# Altium footprint library PcbLib1.PcbLib: 226 footprints (part 11 of 15)
Each footprint in its own frame and in the unit in brackets; x right, y up, seen from the top. Pads: shape width x height; smd on the part's side, far side on the other; paste and mask are expansions set on the pad; w line width, h text height; cw(c..) or ccw(c..) is an arc to the next point about the centre after c.
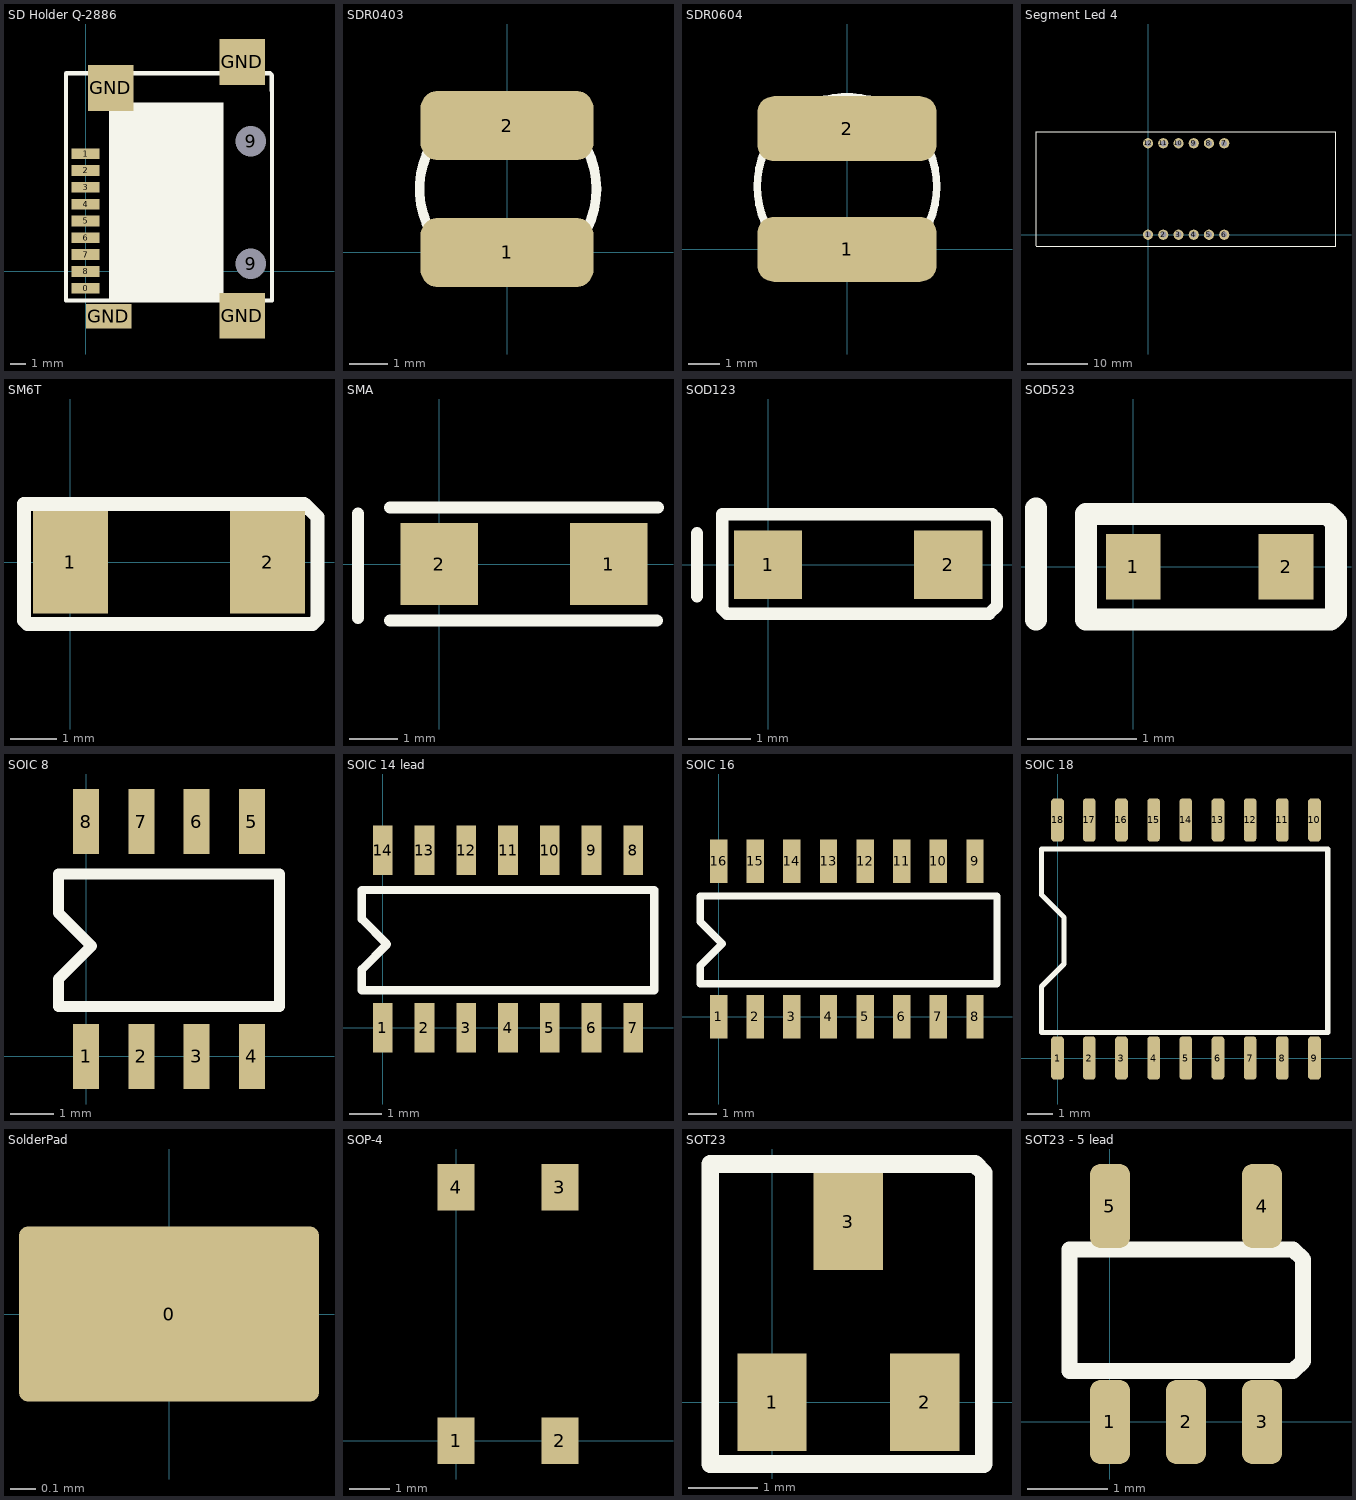
[diagram p10: the footprints below, top view; thin cyan lines are the x and y axes]

## SD Holder Q-2886 [mm]
height 2
pads (15):
  rect 1.8x0.7 smd mask+0: 0(0,-1.1) 1(0,7.7) 2(0,6.6) 3(0,5.5) 4(0,4.4) 5(0,3.3) 6(0,2.2) 7(0,1.1) 8(0,0)
  round 1.5 hole 2 paste+0 mask+0: 9(10.8,0.5) 9(10.8,8.5)
  rect 3x1.6 smd: GND(1.524,-2.921)
  rect 3x3 smd: GND(1.651,12) GND(10.25,-2.9) GND(10.25,13.7)
Top Overlay:
  rectangle: 1.524,-1.778 9.017,11.049
  lines w0.254: -1.27,12.954 -1.27,-1.905 12.192,-1.905 12.192,11.811
  lines w0.3: -1.27,12.954 12.065,12.954 12.192,12.827 12.192,11.811

## SDR0403 [mm]
height 3.5
pads (2):
  rrect50% 4.5x1.8 smd: 1(0,0) 2(0,3.302)
Top Overlay:
  circle w0.254: c0.025,1.651 r2.3

## SDR0604 [mm]
height 5
pads (2):
  rrect50% 5.8x2.1 smd: 1(0,0) 2(0,3.9)
Top Overlay:
  circle w0.254: c0,2.032 r2.9

## Segment Led 4 [mm]
height 6
pads (12):
  round 1.7 hole 1: 1(0,0) 2(2.54,0) 3(5.08,0) 4(7.62,0) 5(10.16,0) 6(12.7,0) 7(12.7,15.24) 8(10.16,15.24) 9(7.62,15.24) 10(5.08,15.24) 11(2.54,15.24) 12(0,15.24)
Top Overlay:
  lines w0.2: -18.669,-1.905 31.331,-1.905 ; -18.669,-1.855 -18.669,17.145 31.331,17.145 31.331,-1.855

## SM6T [mm]
height 3
pads (2):
  rect 1.6x2.2 smd: 1(0,0) 2(4.22,0)
Top Overlay:
  lines w0.3: -0.991,-1.245 -0.991,1.245 5.004,1.245 5.283,0.965 5.283,-1.219 5.182,-1.321 -0.914,-1.321 -0.991,-1.245

## SMA [mm]
height 2
pads (2):
  rect 1.6x1.7 smd: 1(3.5,0) 2(0,0)
Top Overlay:
  lines w0.254: -1.676,-1.118 -1.676,1.041 ; -1.016,-1.168 4.496,-1.168 ; -1.016,1.168 4.521,1.168

## SOD123 [mm]
height 3
pads (2):
  rect 1.1x1.1 smd: 1(0,0) 2(2.9,0)
Top Overlay:
  lines w0.2: -1.143,-0.508 -1.143,0.508 ; -0.737,-0.711 -0.66,-0.787 3.556,-0.787 3.683,-0.66 3.683,0.737 3.607,0.813 -0.737,0.813 -0.737,-0.711

## SOD523 [mm]
height 3
pads (2):
  rect 0.5x0.6 smd: 1(0,0) 2(1.397,0)
Top Overlay:
  lines w0.2: -0.889,-0.483 -0.889,0.533 ; -0.432,-0.483 1.803,-0.483 1.854,-0.432 1.854,0.406 1.778,0.483 -0.432,0.483 -0.432,-0.483

## SOIC 8 [mm]
height 1
pads (8):
  rect 0.6x1.5 smd: 1(0,0) 2(1.27,0) 3(2.54,0) 4(3.81,0) 5(3.81,5.4) 6(2.54,5.4) 7(1.27,5.4) 8(0,5.4)
Top Overlay:
  lines w0.254: -0.635,1.143 4.445,1.143 4.445,4.191 -0.635,4.191 -0.635,3.302 0.127,2.54 -0.635,1.778 -0.635,1.143

## SOIC 14 lead [mm]
height 1
pads (14):
  rect 0.6x1.5 smd: 1(0,0) 2(1.27,0) 3(2.54,0) 4(3.81,0) 5(5.08,0) 6(6.35,0) 7(7.62,0) 8(7.62,5.4) 9(6.35,5.4) 10(5.08,5.4) 11(3.81,5.4) 12(2.54,5.4) 13(1.27,5.4) 14(0,5.4)
Top Overlay:
  lines w0.254: -0.635,1.143 8.255,1.143 8.255,4.191 -0.635,4.191 -0.635,3.302 0.127,2.54 -0.635,1.778 -0.635,1.143

## SOIC 16 [mm]
height 1
pads (16):
  rect 0.6x1.5 smd: 1(0,0) 2(1.27,0) 3(2.54,0) 4(3.81,0) 5(5.08,0) 6(6.35,0) 7(7.62,0) 8(8.89,0) 9(8.89,5.4) 10(7.62,5.4) 11(6.35,5.4) 12(5.08,5.4) 13(3.81,5.4) 14(2.54,5.4) 15(1.27,5.4) 16(0,5.4)
Top Overlay:
  lines w0.254: -0.635,1.143 -0.635,1.778 0.127,2.54 -0.635,3.302 -0.635,4.191 9.652,4.191 9.652,1.143 -0.635,1.143

## SOIC 18 [mm]
height 2
pads (18):
  rrect50% 0.5x1.7 smd: 1(0,0) 2(1.255,0) 3(2.525,0) 4(3.795,0) 5(5.065,0) 6(6.335,0) 7(7.605,0) 8(8.875,0) 9(10.145,0) 10(10.145,9.4) 11(8.875,9.4) 12(7.605,9.4) 13(6.335,9.4) 14(5.065,9.4) 15(3.795,9.4) 16(2.525,9.4) 17(1.255,9.4) 18(0,9.4)
Top Overlay:
  lines w0.2: -0.635,1.016 10.668,1.016 10.668,8.255 -0.635,8.255 -0.635,6.445 0.254,5.556 0.254,3.715 -0.635,2.826 -0.635,1.016

## SolderPad [mm]
pads (1):
  rrect10% 1.2x0.7 smd: 0(0,0)

## SOP-4 [mm]
height 3
pads (4):
  rect 0.91x1.14 smd: 1(0,0) 2(2.54,0) 3(2.54,6.2) 4(0,6.2)

## SOT23 [mm]
height 1
pads (3):
  rect 1x1.4 smd: 1(0,0) 2(2.2,0) 3(1.1,2.6)
Top Overlay:
  lines w0.254: -0.889,-0.889 -0.889,3.429 2.921,3.429 3.048,3.302 3.048,-0.889 -0.889,-0.889

## SOT23 - 5 lead [mm]
height 1
pads (5):
  rrect50% 0.5x1.05 smd: 1(0,0) 2(0.95,0) 3(1.9,0) 4(1.9,2.7) 5(0,2.7)
Top Overlay:
  lines w0.2: -0.508,0.635 -0.508,2.159 2.286,2.159 2.413,2.032 2.413,0.762 2.286,0.635 -0.508,0.635